# EAGLE library part FPC26_PIN (library we-con)
FPC/ZIF Connector
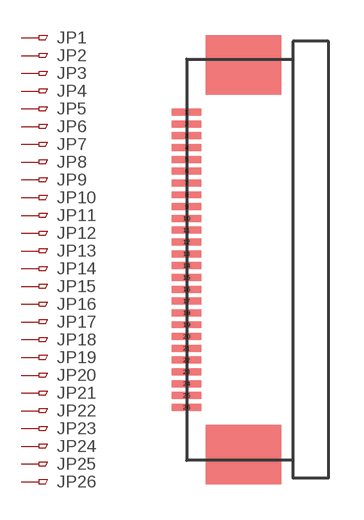
[diagram p27: symbol with the pads of FPC26-0.5; footprint FPC26-0.5]

Designator prefix J; gates P1=PIN P2=PIN P3=PIN P4=PIN P5=PIN P6=PIN P7=PIN P8=PIN P9=PIN P10=PIN P11=PIN P12=PIN P13=PIN P14=PIN P15=PIN P16=PIN P17=PIN P18=PIN P19=PIN P20=PIN P21=PIN P22=PIN P23=PIN P24=PIN P25=PIN P26=PIN

## FPC26_PIN  [FPC26-0.5]
1  P1:1  pas
2  P2:1  pas
3  P3:1  pas
4  P4:1  pas
5  P5:1  pas
6  P6:1  pas
7  P7:1  pas
8  P8:1  pas
9  P9:1  pas
10  P10:1  pas
11  P11:1  pas
12  P12:1  pas
13  P13:1  pas
14  P14:1  pas
15  P15:1  pas
16  P16:1  pas
17  P17:1  pas
18  P18:1  pas
19  P19:1  pas
20  P20:1  pas
21  P21:1  pas
22  P22:1  pas
23  P23:1  pas
24  P24:1  pas
25  P25:1  pas
26  P26:1  pas

## Footprint FPC26-0.5 (pad centres in mm)
26 Pins 0.5mm
smd 1.27 x 0.279: 1 0,6.25; 2 0,5.75; 3 0,5.25; 4 0,4.75; 5 0,4.25; 6 0,3.75; 7 0,3.25; 8 0,2.75; 9 0,2.25; 10 0,1.75; 11 0,1.25; 12 0,0.75; 13 0,0.25; 14 0,-0.25; 15 0,-0.75; 16 0,-1.25; 17 0,-1.75; 18 0,-2.25; 19 0,-2.75; 20 0,-3.25; 21 0,-3.75; 22 0,-4.25; 23 0,-4.75; 24 0,-5.25; 25 0,-5.75; 26 0,-6.25